# Altium schematic symbol library ic-power-controller.SchLib: 27 symbols
Pins are listed as number, name and electrical type; pins without a type are passive.

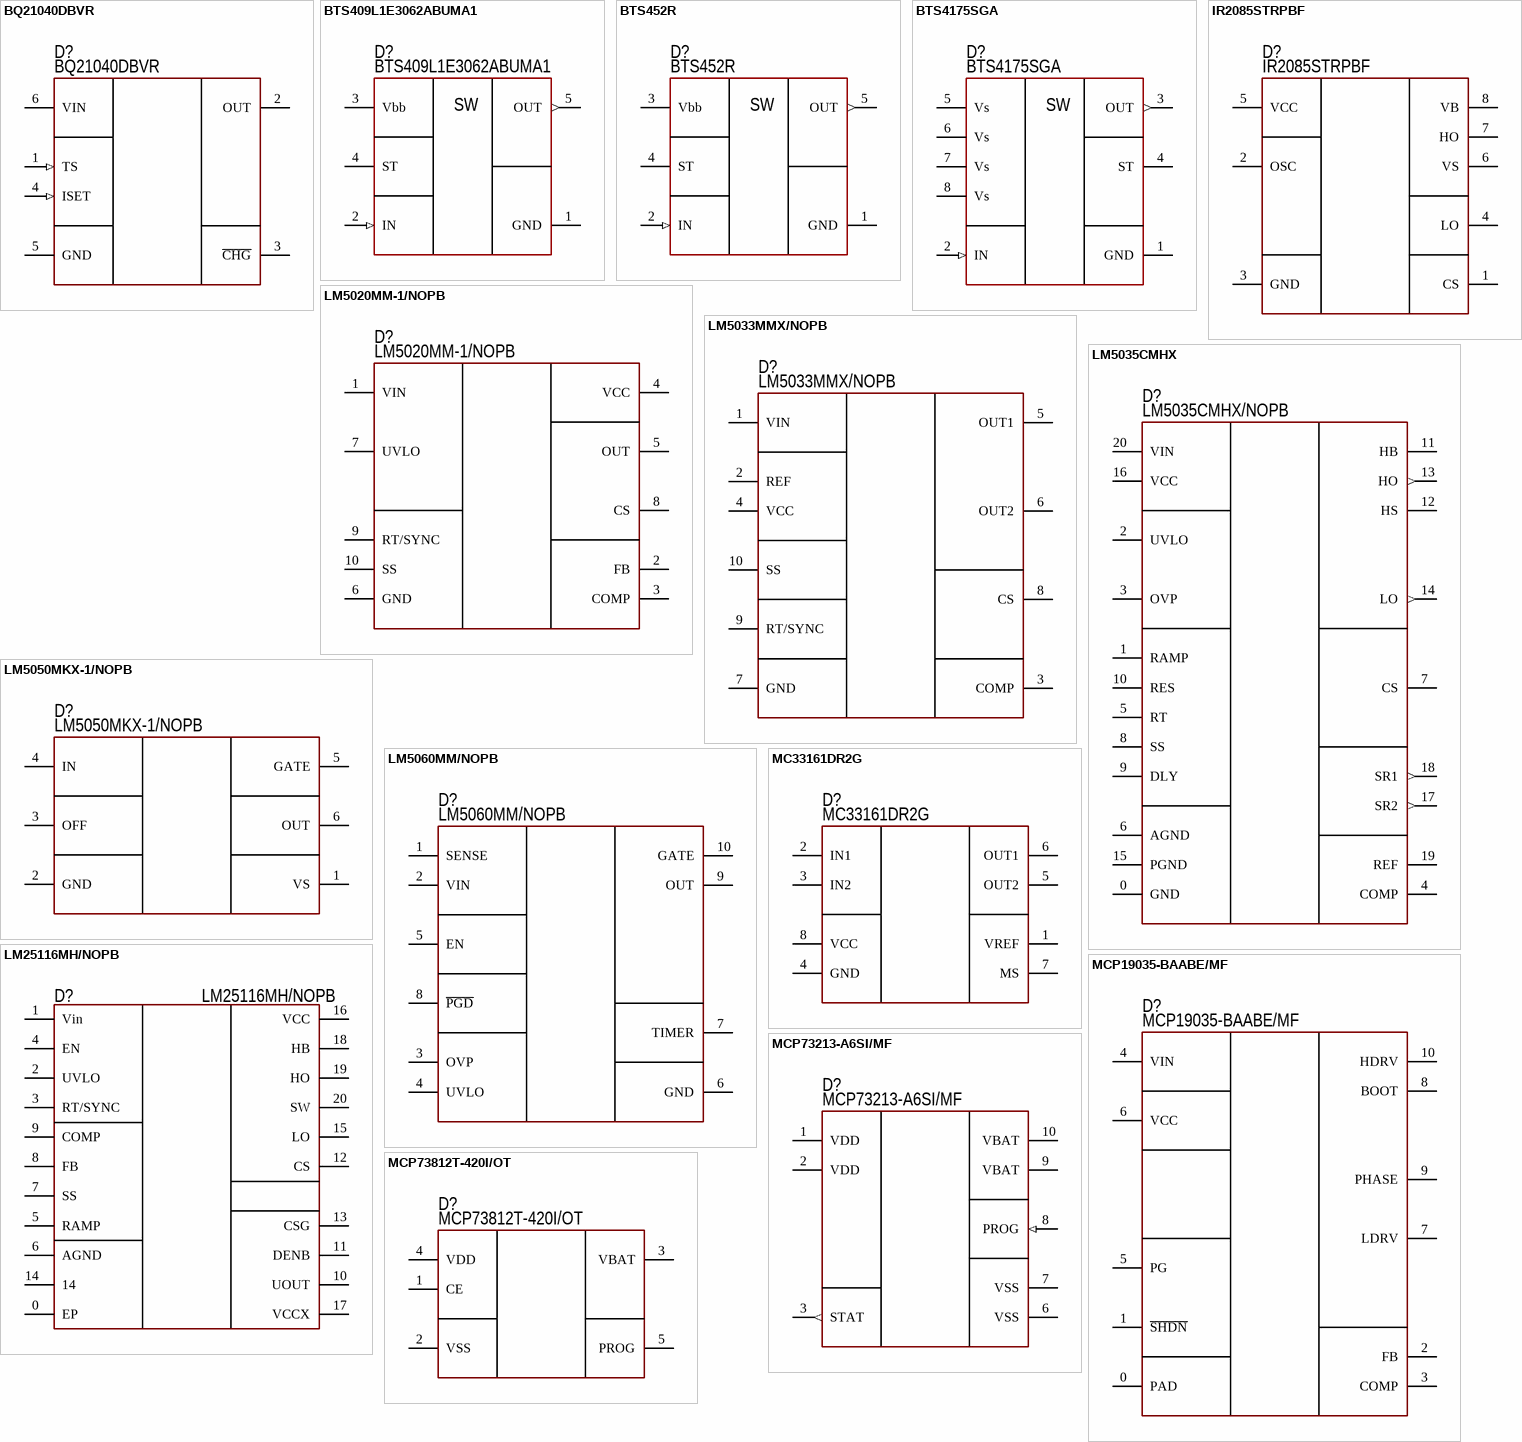
[diagram p0: symbols BQ21040DBVR to MCP73812T-420I/OT]

## BQ21040DBVR
designator D?  PartNumber: BQ21040DBVR
Charger; Manufacturer: Texas Instruments; ValueManufacturerPartNumber: Charger li-ion battery, input 4.5...6.25V, output 4.2V, 0.8A, 0...+125°C, SOT23-6; VoltageInput: input 4.5...6.25V; CurrentOutput: 0.8A; VoltageOutput: output 4.2V; HelpURL: https://www.digikey.com/product-detail/en/texas-instruments/BQ21040DBVR/296-47315-1-ND/7688325; Package: SOT23-6; ComponentType: Charger li-ion battery; Temperature: 0...+125°C
footprint SOT23-6 (pitch 0.95 mm)
pins: 1 TS (in), 2 OUT, 3 ~{CHG}, 4 ISET (in), 5 GND, 6 VIN

## BTS409L1E3062ABUMA1
designator D?  PartNumber: BTS409L1E3062ABUMA1
Power Switch; Manufacturer: Infineon; ValueManufacturerPartNumber: Smart High-Side Power Switch, 5...34V, 2.3A, 4A, 200mOhms, -40...+150°C, TO263-5; Voltage: 5...34V; LoadCurrent: 2.3A; CurrentLimitation: 4A; RdsOn: 200mOhms; HelpURL: https://www.digikey.com/en/products/detail/infineon-technologies/BTS409L1E3062ABUMA1/6599624?s=N4IgTCBcDaIEIBUDKAWADATgDIEYCiAzGgGxgCCcAqgLJk4gC6AvkA; Package: TO263-5; ComponentType: Smart High-Side Power Switch; Temperature: -40...+150°C
footprint TO-263-5
pins: 1 GND, 2 IN (in), 3 Vbb (power), 4 ST, 5 OUT (out)
text: SW

## BTS452R
designator D?  PartNumber: BTS452R
Power Switch; Manufacturer: Infineon; ValueManufacturerPartNumber: Smart High-Side Power Switch, 6...52V, 1.8A, 4.5A, 200mOhms, -40...+150°C, TO-252-5; Voltage: 6...52V; LoadCurrent: 1.8A; CurrentLimitation: 4.5A; RdsOn: 200mOhms; HelpURL: https://www.mouser.com/ProductDetail/Infineon-Technologies/BTS452R?qs=mzcOS1kGbgdkvN8XhJ3n9Q%3D%3D; Package: TO-252-5; ComponentType: Smart High-Side Power Switch; Temperature: -40...+150°C
footprint TO-252-5 (Infineon)
pins: 1 GND, 2 IN (in), 3 Vbb (power), 4 ST, 5 OUT (out)
text: SW

## BTS4175SGA
designator D?  PartNumber: BTS4175SGA
Power Switch; Manufacturer: Infineon; ValueManufacturerPartNumber: Smart High-Side Power Switch, 6...52V, 1.3A, 6A, 350mOhms, -40...+150°C, SOIC-8; Voltage: 6...52V; LoadCurrent: 1.3A; CurrentLimitation: 6A; RdsOn: 350mOhms; HelpURL: https://www.mouser.com/ProductDetail/Infineon-Technologies/BTS4175SGA?qs=mzcOS1kGbgf2%2F%252Bl0Ty5%2F1w%3D%3D; Package: SOIC-8; ComponentType: Smart High-Side Power Switch; Temperature: -40...+150°C
footprint 8-SOIC (pitch 1.27 mm)
pins: 1 GND, 2 IN (in), 3 OUT (out), 4 ST, 5 Vs (power), 6 Vs (power), 7 Vs (power), 8 Vs (power)
text: SW

## IR2085STRPBF
designator D?  PartNumber: IR2085STRPBF
PWM controller; Manufacturer: Infineon; ValueManufacturerPartNumber: PWM half-bridge controller, supply 10...15V, up to 500kHz, bootstrap 100V, -40...+105°C, 8-SOIC; VoltageInput: supply 10...15V; Frequency: up to 500kHz; OutputType: bootstrap 100V; HelpURL: https://www.digikey.com/product-detail/en/infineon-technologies/IR2085STRPBF/IR2085STRPBFCT-ND/812612; Package: 8-SOIC; ComponentType: PWM half-bridge controller; Temperature: -40...+105°C
footprint 8-SOIC (pitch 1.27 mm)
pins: 1 CS, 2 OSC, 3 GND, 4 LO, 5 VCC, 6 VS, 7 HO, 8 VB

## LM5020MM-1/NOPB
designator D?  PartNumber: LM5020MM-1/NOPB
PWM controller; Manufacturer: Texas Instruments; ValueManufacturerPartNumber: PWM controller, supply 13...90V, 1MHz, External switch, -40...+105°C, 10-VSSOP; VoltageInput: supply 13...90V; Frequency: 1MHz; OutputType: External switch; HelpURL: https://www.digikey.com/product-detail/en/texas-instruments/LM5020MM-1-NOPB/LM5020MM-1-NOPBCT-ND/665721; Package: 10-VSSOP; ComponentType: PWM controller; Temperature: -40...+105°C
footprint 10-MSOP (3x3 mm, pitch 0.5 mm)
pins: 1 VIN, 2 FB, 3 COMP, 4 VCC, 5 OUT, 6 GND, 7 UVLO, 8 CS, 9 RT/SYNC, 10 SS

## LM5033MMX/NOPB
designator D?  PartNumber: LM5033MMX/NOPB
PWM controller; Manufacturer: Texas Instruments; ValueManufacturerPartNumber: PWM controller, supply 15...90V, 200/600 kHz, External switch, -40...+125°C, 10-MSOP; VoltageInput: supply 15...90V; Frequency: 200/600 kHz; OutputType: External switch; HelpURL: https://www.digikey.com/product-detail/en/texas-instruments/LM5033MMX-NOPB/296-35293-1-ND/3739001; Package: 10-MSOP; ComponentType: PWM controller; Temperature: -40...+125°C
footprint 10-MSOP (3x3 mm, pitch 0.5 mm)
pins: 1 VIN, 2 REF, 3 COMP, 4 VCC, 5 OUT1, 6 OUT2, 7 GND, 8 CS, 9 RT/SYNC, 10 SS

## LM5035CMHX
designator D?  PartNumber: LM5035CMHX/NOPB
PWM controller; Manufacturer: Texas Instruments; ValueManufacturerPartNumber: PWM controller half bridge, supply 13...105V, 2 MHz, Internal driver, -40...+125°C, 20-PowerTSSOP; VoltageInput: supply 13...105V; Frequency: 2 MHz; OutputType: Internal driver; HelpURL: https://www.digikey.com/product-detail/en/texas-instruments/LM5035CMHX-NOPB/296-45545-1-ND/6823175; Package: 20-PowerTSSOP; ComponentType: PWM controller half bridge; Temperature: -40...+125°C
footprint 20-TSSOP-PAD (pitch 0.65 mm, power pad)
pins: 0 GND, 1 RAMP, 2 UVLO, 3 OVP, 4 COMP, 5 RT, 6 AGND, 7 CS, 8 SS, 9 DLY, 10 RES, 11 HB, 12 HS, 13 HO (out), 14 LO (out), 15 PGND, 16 VCC, 17 SR2 (out), 18 SR1 (out), 19 REF, 20 VIN

## LM5050MKX-1/NOPB
designator D?  PartNumber: LM5050MKX-1/NOPB
Ideal diode; Manufacturer: Texas Instruments; ValueManufacturerPartNumber: Ideal diode, input 5...75V, 486ns, supply 130 µA, 2A peak gate, -40...+125°C, SOT23-6; VoltageInput: input 5...75V; Frequency: 486ns; CurrentOutput: 2A peak gate; VoltageOutput: supply 130 µA; HelpURL: https://www.digikey.com/product-detail/en/texas-instruments/LM5050MKX-1-NOPB/296-46427-1-ND/7033600; Package: SOT23-6; ComponentType: Ideal diode; Temperature: -40...+125°C
footprint SOT23-6 (pitch 0.95 mm)
pins: 1 VS, 2 GND, 3 OFF, 4 IN, 5 GATE, 6 OUT

## LM5060MM/NOPB
designator D?  PartNumber: LM5060MM/NOPB
PWM controller; Manufacturer: Texas Instruments; ValueManufacturerPartNumber: IC power managment, supply 5.5...65V, N-channel, External switch, -40...+125°C, 10-MSOP; VoltageInput: supply 5.5...65V; TypeController: N-channel; OutputType: External switch; HelpURL: https://www.digikey.com/product-detail/en/texas-instruments/LM5060MM-NOPB/296-39024-1-ND/5143071; Package: 10-MSOP; ComponentType: IC power managment; Temperature: -40...+125°C
footprint 10-TSSOP (3x3 mm, pitch 0.5 mm)
pins: 1 SENSE, 2 VIN, 3 OVP, 4 UVLO, 5 EN, 6 GND, 7 TIMER, 8 ~{PGD}, 9 OUT, 10 GATE

## LM25116MH/NOPB
designator D?  PartNumber: LM25116MH/NOPB
Boost controller; Manufacturer: Texas Instruments; VoltageInput: up to 42V; Frequency: up to 1 MHz; HelpURL: https://www.digikey.com/product-detail/en/texas-instruments/LM5035CMHX-NOPB/296-45545-1-ND/6823175; Package: 20-HTSSOP; ComponentType: Wide-Range Synchronous Buck Controller; ValueManufacturerPartNumber: =ComponentType+', '+VoltageInput+', '+Frequency+', '+OutputType+', '+Temperature+', '+Package; Temperature: -40...+125°C
footprint 20-HTSSOP (pitch 0.65 mm, exposed pad)
pins: 0 EP, 1 Vin, 2 UVLO, 3 RT/SYNC, 4 EN, 5 RAMP, 6 AGND, 7 SS, 8 FB, 9 COMP, 10 UOUT, 11 DENB, 12 CS, 13 CSG, 14, 15 LO, 16 VCC, 17 VCCX, 18 HB, 19 HO, 20 SW

## MC33161DR2G
designator D?  PartNumber: MC33161DR2G
Supervisor; Manufacturer: ON Semiconductor; ValueManufacturerPartNumber: Multi-voltage supervisor, max supply 40V, Open drain, -40...+105°C, 8-SOIC; VoltageInput: max supply 40V; OutputType: Open drain; HelpURL: https://www.digikey.com/product-detail/en/on-semiconductor/MC33161DR2G/MC33161DR2GOSCT-ND/1139692; Package: 8-SOIC; ComponentType: Multi-voltage supervisor; Temperature: -40...+105°C
footprint 8-SOIC (pitch 1.27 mm)
pins: 1 VREF, 2 IN1, 3 IN2, 4 GND, 5 OUT2, 6 OUT1, 7 MS, 8 VCC

## MCP19035-BAABE/MF
designator D?  PartNumber: MCP19035-BAABE/MF
Buck controller; Manufacturer: Microchip; ValueManufacturerPartNumber: DC/DC buck controller, input 4.5...30V, 300/600 kHz, output 0.6...25V, 2 phase, -40...+125°C, 10-DFN (3x3); VoltageInput: input 4.5...30V; Frequency: 300/600 kHz; CurrentOutput: 2 phase; VoltageOutput: output 0.6...25V; HelpURL: https://www.digikey.com/product-detail/en/microchip-technology/MCP19035-BAABE-MF/MCP19035-BAABE-MF-ND/4079920; Package: 10-DFN (3x3); ComponentType: DC/DC buck controller; Temperature: -40...+125°C
footprint 10-DFN (3x3 mm, pitch 0.5 mm, power pad)
pins: 0 PAD, 1 ~{SHDN}, 2 FB, 3 COMP, 4 VIN, 5 PG, 6 VCC, 7 LDRV, 8 BOOT, 9 PHASE, 10 HDRV

## MCP73213-A6SI/MF
designator D?  PartNumber: MCP73213-A6SI/MF
Charger; Manufacturer: Microchip Technology; ValueManufacturerPartNumber: Charger  2S li-ion battery, input 8.8...13V, output 8.4V, 1.1A, -40...+85°C, 10-DFN; VoltageInput: input 8.8...13V; CurrentOutput: 1.1A; VoltageOutput: output 8.4V; HelpURL: https://www.digikey.com/products/en?keywords=MCP73213-A6SI%2FMF; Package: 10-DFN; ComponentType: Charger  2S li-ion battery; Temperature: -40...+85°C
footprint 10-DFN (3x3 mm, pitch 0.5 mm, power pad)
pins: 1 VDD, 2 VDD, 3 STAT (out), 6 VSS, 7 VSS, 8 PROG (in), 9 VBAT, 10 VBAT

## MCP73812T-420I/OT
designator D?  PartNumber: MCP73812T-420I/OT
Charger; Manufacturer: Microchip Technology; ValueManufacturerPartNumber: Charger li-ion battery, input 3.75...6V, output 4.2V, 0.5A, -40...+85°C, SOT23-5; VoltageInput: input 3.75...6V; CurrentOutput: 0.5A; VoltageOutput: output 4.2V; HelpURL: https://www.digikey.com/en/products/detail/microchip-technology/MCP73812T-420I-OT/1626618?s=N4IgTCBcDaILIGEAKB2AzADgIxgCoFoAWMABgEkB6AeVxAF0BfIA; Package: SOT23-5; ComponentType: Charger li-ion battery; Temperature: -40...+85°C
footprint SOT23-5 (pitch 0.95 mm)
pins: 1 CE, 2 VSS, 3 VBAT, 4 VDD, 5 PROG

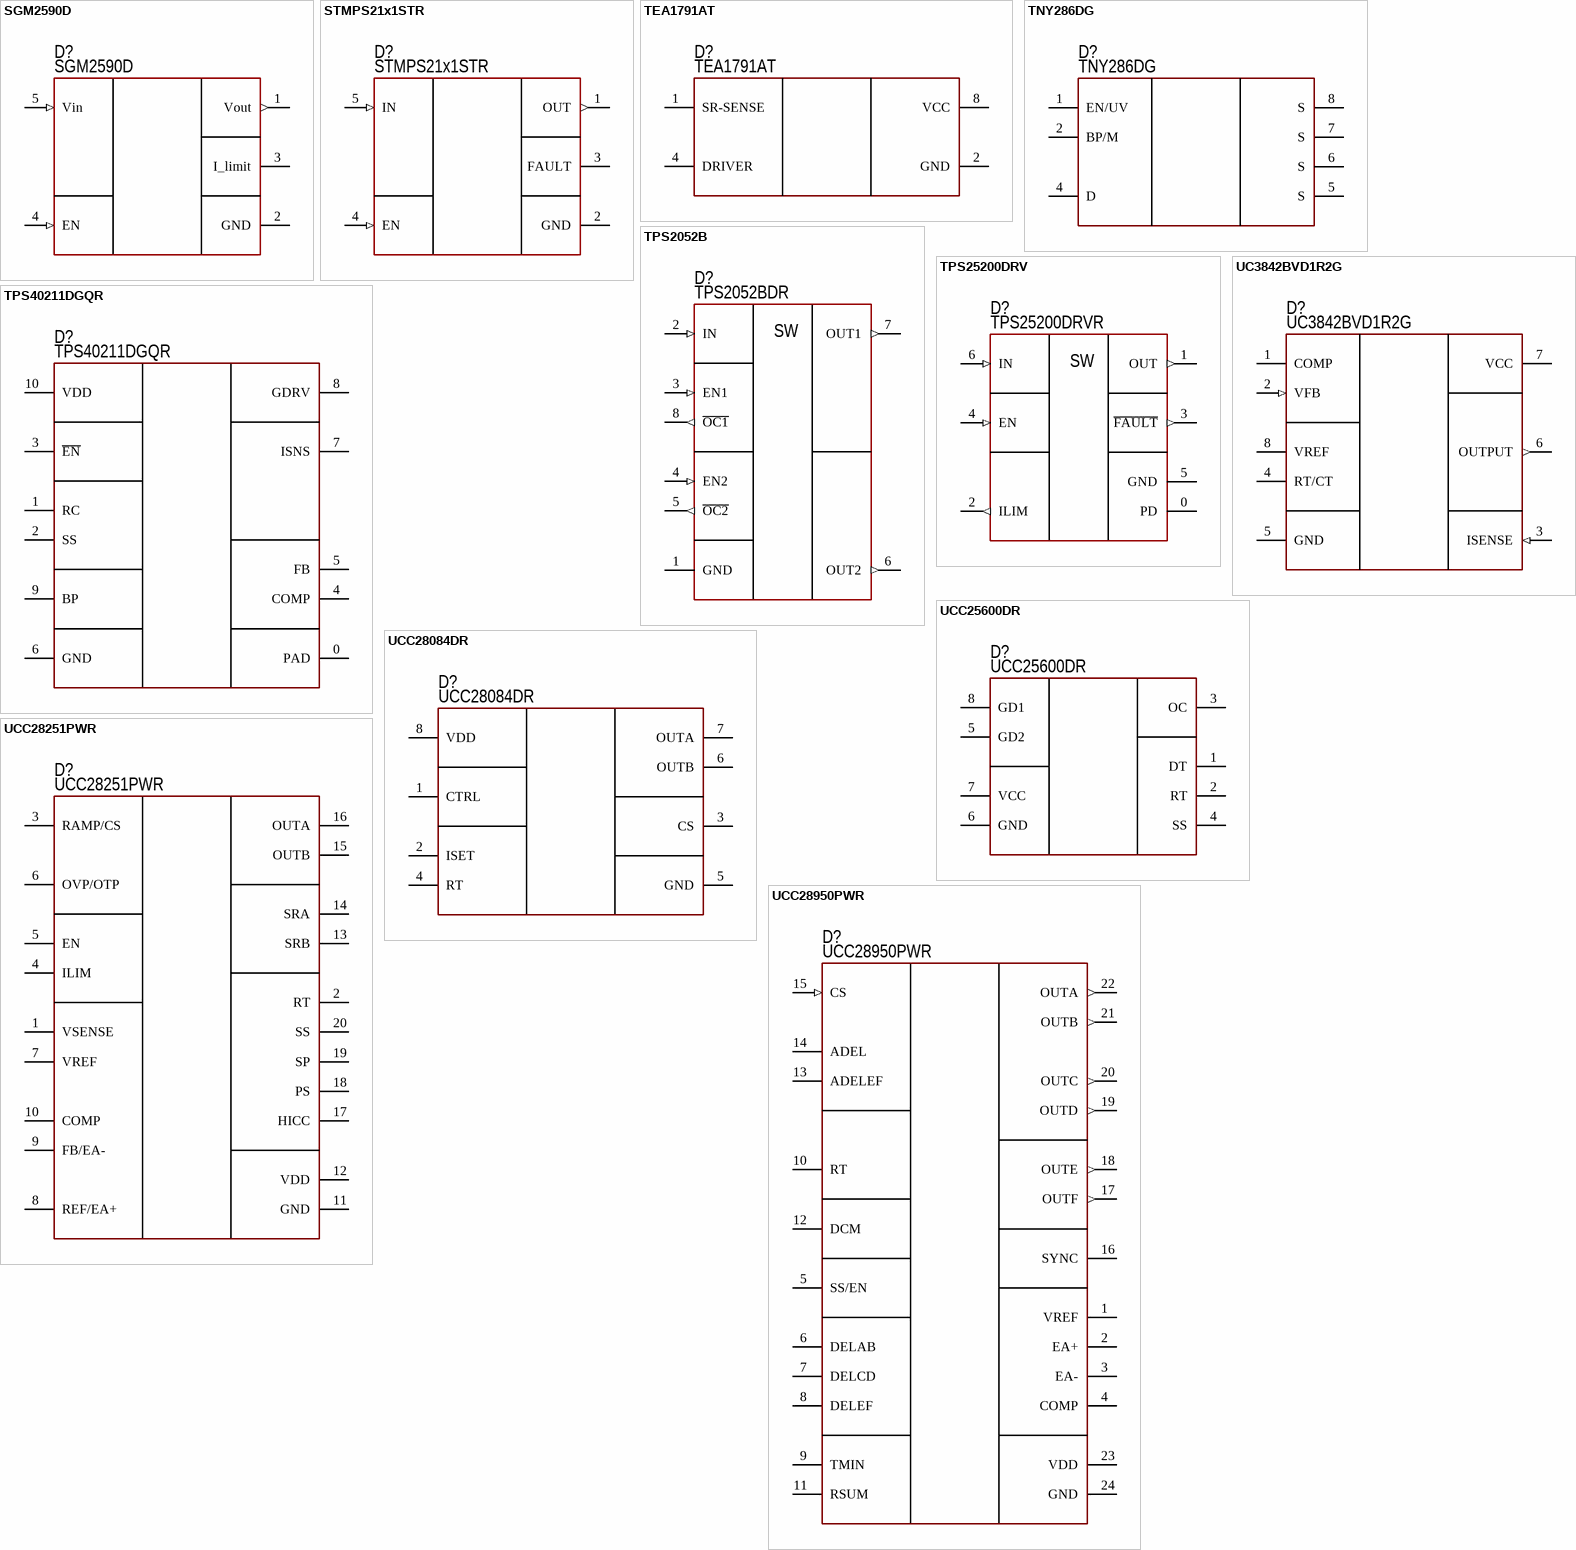
[diagram p1: symbols SGM2590D to UCC28950PWR]

## SGM2590D
designator D?  PartNumber: SGM2590D
Power Switch with porgrammable Ilim; Manufacturer: SGmicro; Voltage: 2.5-6V; CurrentOutput: 0.1 to 3A; HelpURL: https://www.sg-micro.de/rect/assets/28859410-24d5-43f6-8723-76d4c3a5d0e7/SGM2590_SGM2590D.pdf?access_token=JB0xlRQ-10F_vQg1XXqsnx8zy4iF65LO; Package: SOT23-5; ComponentType: single channel Power Switch with porgrammable current limit; ValueManufacturerPartNumber: =ComponentType+', '+VoltageInput+', '+Frequency+', '+VoltageOutput+', '+CurrentOutput+', '+Temperature+', '+Package; Temperature: -40...+85°C
footprint SOT23-5 (pitch 0.95 mm)
pins: 1 Vout (out), 2 GND, 3 I_limit, 4 EN (in), 5 Vin (in)

## STMPS21x1STR
designator D?  PartNumber: STMPS21x1STR
Power Switch; Manufacturer: STMicroelectronics; Voltage: 5.5V; CurrentOutput: 500/1000 mA; HelpURL: https://www.st.com/content/st_com/en/products/switches-and-multiplexers/power-load-switches/stmps2151.html; Package: SOT23-5; ComponentType: Enhanced single channel power switche; ValueManufacturerPartNumber: =ComponentType+', '+VoltageInput+', '+Frequency+', '+VoltageOutput+', '+CurrentOutput+', '+Temperature+', '+Package; Temperature: -40...+85°C; Supplier 1: Digi-Key; Supplier Part Number 1: 497-6934-1-ND
footprint SOT23-5 (pitch 0.95 mm)
pins: 1 OUT (out), 2 GND, 3 FAULT, 4 EN (in), 5 IN (in)

## TEA1791AT
designator D?  PartNumber: TEA1791AT
Synchronous rectification; Manufacturer: NXP; ValueManufacturerPartNumber: Synchronous rectification, input 8.5...38V, 1MHz, ExternalSwitch, Controller, -40...+150°C, 8-SOIC; VoltageInput: input 8.5...38V; Frequency: 1MHz; TypeConverter: Controller; OutputType: ExternalSwitch; HelpURL: https://www.digikey.com/product-detail/en/nxp-usa-inc/TEA1791AT-N1118/568-5964-1-ND/2531251; Package: 8-SOIC; ComponentType: Synchronous rectification; Temperature: -40...+150°C
footprint 8-SOIC (pitch 1.27 mm)
pins: 1 SR-SENSE, 2 GND, 4 DRIVER, 8 VCC

## TNY286DG
designator D?  PartNumber: TNY286DG
AC/DC converter; Manufacturer: Power Integrations; ValueManufacturerPartNumber: AC/DC flyback converter, 725V, 124...140kHz, 13W, supply 6.8...25V, -40...+150°C, 8-SOIC; MaxInternalVoltage: 725V; Frequency: 124...140kHz; PowerOutput: 13W; VoltageSupply: supply 6.8...25V; HelpURL: https://www.digikey.com/product-detail/en/power-integrations/TNY286DG/596-1581-ND/4171962; Package: 8-SOIC; ComponentType: AC/DC flyback converter; Temperature: -40...+150°C
footprint IC: TNY286DG
pins: 1 EN/UV, 2 BP/M, 4 D, 5 S, 6 S, 7 S, 8 S

## TPS2052B
designator D?  PartNumber: TPS2052BDR
USB Power Switch; Manufacturer: Texas Instruments; ValueManufacturerPartNumber: USB Power Switch, 2.7...5.5V, 500mA, 1A, 135mOhms, -40...+85°C, SOIC-8; Voltage: 2.7...5.5V; LoadCurrent: 500mA; CurrentLimitation: 1A; RdsOn: 135mOhms; HelpURL: https://eu.mouser.com/ProductDetail/Texas-Instruments/TPS2052BDR?qs=ojKcPFmCWSVs%252Br4Mx%252BByXg%3D%3D; Package: SOIC-8; ComponentType: USB Power Switch; Temperature: -40...+85°C
footprint 8-SOIC (pitch 1.27 mm)
pins: 1 GND (power), 2 IN (in), 3 EN1 (in), 4 EN2 (in), 5 ~{OC2} (out), 6 OUT2 (out), 7 OUT1 (out), 8 ~{OC1} (out)
text: SW

## TPS25200DRV
designator D?  PartNumber: TPS25200DRVR
Hot Swap Voltage Controller; Manufacturer: Texas Instruments; ValueManufacturerPartNumber: Hot Swap Voltage Controller, 2.5...6.5V, 85mA...2.9A, 60mOhms, -40...+125°C, WSON-6; Voltage: 2.5...6.5V; CurrentLimitation: 85mA...2.9A; RdsOn: 60mOhms; HelpURL: https://eu.mouser.com/ProductDetail/Texas-Instruments/TPS25200DRVR?qs=p08Uhw9w2FzQJ8NfE3%252BFYg%3D%3D; Package: WSON-6; ComponentType: Hot Swap Voltage Controller; Temperature: -40...+125°C
footprint 6-WSON (0.65P 2.0x2.0 110x170S) (SON, 0.65mm, Pitch; 6 Pin,2.00mm W X 2.00mm L X 0.80mm H body (W/Thermal Tab 1.1mm X 1.7mm),  IPC Medium Density)
pins: 0 PD, 1 OUT (out), 2 ILIM (out), 3 ~{FAULT} (out), 4 EN (in), 5 GND, 6 IN (in)
text: SW

## TPS40211DGQR
designator D?  PartNumber: TPS40211DGQR
Boost controller; Manufacturer: Texas Instruments; ValueManufacturerPartNumber: DC/DC boost controller, input 4.5...52V, 35...1500 kHz, output max 52V, PWM output, -40...+85°C, 10-MSOP; VoltageInput: input 4.5...52V; Frequency: 35...1500 kHz; CurrentOutput: PWM output; VoltageOutput: output max 52V; HelpURL: https://www.digikey.com/product-detail/en/texas-instruments/TPS40211DGQR/296-39398-1-ND/5143349; Package: 10-MSOP; ComponentType: DC/DC boost controller; Temperature: -40...+85°C
footprint 10-MSOP-PAD (3x3 mm, pitch 0.5 mm)
pins: 0 PAD, 1 RC, 2 SS, 3 ~{EN}, 4 COMP, 5 FB, 6 GND, 7 ISNS, 8 GDRV, 9 BP, 10 VDD

## UC3842BVD1R2G
designator D?  PartNumber: UC3842BVD1R2G
PWM controller; Manufacturer: ON Semiconductor; ValueManufacturerPartNumber: PWM controller, supply 10...30V, 500kHz, External switch, -40...+105°C, 8-SOIC; VoltageInput: supply 10...30V; Frequency: 500kHz; OutputType: External switch; HelpURL: https://www.digikey.com/product-detail/en/on-semiconductor/UC3842BVD1R2G/UC3842BVD1R2GOSCT-ND/5802572; Package: 8-SOIC; ComponentType: PWM controller; Temperature: -40...+105°C
footprint 8-SOIC (pitch 1.27 mm)
pins: 1 COMP, 2 VFB (in), 3 ISENSE (in), 4 RT/CT, 5 GND, 6 OUTPUT (out), 7 VCC, 8 VREF

## UCC25600DR
designator D?  PartNumber: UCC25600DR
PWM controller; Manufacturer: Texas Instruments; ValueManufacturerPartNumber: PWM LLC controller, supply 11.5...18V, 350kHz, External switch, -40...+85°C, 8-SOIC; VoltageInput: supply 11.5...18V; Frequency: 350kHz; OutputType: External switch; HelpURL: https://www.digikey.com/product-detail/en/texas-instruments/UCC25600DR/296-38315-1-ND/4967520; Package: 8-SOIC; ComponentType: PWM LLC controller; Temperature: -40...+85°C
footprint 8-SOIC (pitch 1.27 mm)
pins: 1 DT, 2 RT, 3 OC, 4 SS, 5 GD2, 6 GND, 7 VCC, 8 GD1

## UCC28084DR
designator D?  PartNumber: UCC28084DR
PWM controller; Manufacturer: Texas Instruments; ValueManufacturerPartNumber: PWM controller, supply 4.1...15V, 200kHz, External switch, -40...+85°C, 8-SOIC; VoltageInput: supply 4.1...15V; Frequency: 200kHz; OutputType: External switch; HelpURL: https://www.digikey.com/product-detail/en/texas-instruments/UCC28084DR/296-39532-1-ND/5143475; Package: 8-SOIC; ComponentType: PWM controller; Temperature: -40...+85°C
footprint 8-SOIC (pitch 1.27 mm)
pins: 1 CTRL, 2 ISET, 3 CS, 4 RT, 5 GND, 6 OUTB, 7 OUTA, 8 VDD

## UCC28251PWR
designator D?  PartNumber: UCC28251PWR
PWM controller; Manufacturer: Texas Instruments; ValueManufacturerPartNumber: PWM controller, supply 4.7...17V, 42...945 kHz, PWM signal, -40...+125°C, 20-PowerTSSOP; VoltageInput: supply 4.7...17V; Frequency: 42...945 kHz; OutputType: PWM signal; HelpURL: https://www.digikey.com/product-detail/en/texas-instruments/UCC28251PWR/296-41053-1-ND/5178930; Package: 20-PowerTSSOP; ComponentType: PWM controller; Temperature: -40...+125°C
footprint 20-TSSOP (pitch 0.65 mm)
pins: 1 VSENSE, 2 RT, 3 RAMP/CS, 4 ILIM, 5 EN, 6 OVP/OTP, 7 VREF, 8 REF/EA+, 9 FB/EA-, 10 COMP, 11 GND, 12 VDD, 13 SRB, 14 SRA, 15 OUTB, 16 OUTA, 17 HICC, 18 PS, 19 SP, 20 SS

## UCC28950PWR
designator D?  PartNumber: UCC28950PWR
PWM controller; Manufacturer: Texas Instruments; ValueManufacturerPartNumber: PWM controller, supply 8...17V, 50...1000 kHz, PWM signal, -40...+125°C, 24-TSSOP; VoltageInput: supply 8...17V; Frequency: 50...1000 kHz; OutputType: PWM signal; HelpURL: https://www.digikey.com/product-detail/en/texas-instruments/UCC28950PWR/296-25884-1-ND/2241914; Package: 24-TSSOP; ComponentType: PWM controller; Temperature: -40...+125°C
footprint 24-TSSOP (pitch 0.65 mm)
pins: 1 VREF, 2 EA+, 3 EA-, 4 COMP, 5 SS/EN, 6 DELAB, 7 DELCD, 8 DELEF, 9 TMIN, 10 RT, 11 RSUM, 12 DCM, 13 ADELEF, 14 ADEL, 15 CS (in), 16 SYNC, 17 OUTF (out), 18 OUTE (out), 19 OUTD (out), 20 OUTC (out), 21 OUTB (out), 22 OUTA (out), 23 VDD, 24 GND